# Altium schematic symbol library FT2232HL-REEL.SchLib: 1 symbol
Pins are listed as number, name and electrical type; pins without a type are passive.

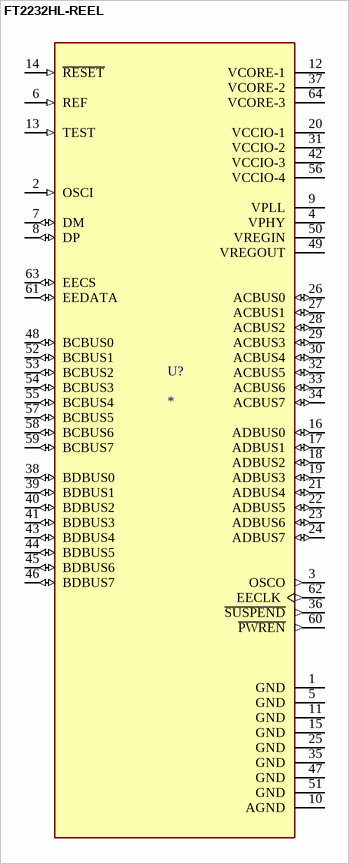
[diagram p0: symbol FT2232HL-REEL]

## FT2232HL-REEL
designator U?
USB Bridge, USB to UART,FIFO USB 2.0 UART Interface 64-LQFP (10x10); MP: FT2232HL-REEL; MF: FTDI,; Value: *; SnapEDA_Link: https://www.snapeda.com/parts/FT2232HL-REEL/FTDI%252C+Future+Technology+Devices+International+Ltd/view-part/?ref=snap; Package: LQFP-64 FTDI; Check_prices: https://www.snapeda.com/parts/FT2232HL-REEL/FTDI%252C+Future+Technology+Devices+International+Ltd/view-part/?ref=eda; Digi-Key_Part_Number: 768-1024-2-ND; Purchase-URL: https://pricing.snapeda.com/search/part/FT2232HL-REEL/?ref=eda
footprint QFP50P1200X1200X160-64N
pins: 1 GND (power), 2 OSCI (in), 3 OSCO (out), 4 VPHY (power), 5 GND (power), 6 REF (in), 7 DM (io), 8 DP (io), 9 VPLL (power), 10 AGND (power), 11 GND (power), 12 VCORE-1 (power), 13 TEST (in), 14 ~{RESET} (in), 15 GND (power), 16 ADBUS0 (io), 17 ADBUS1 (io), 18 ADBUS2 (io), 19 ADBUS3 (io), 20 VCCIO-1 (power), 21 ADBUS4 (io), 22 ADBUS5 (io), 23 ADBUS6 (io), 24 ADBUS7 (io), 25 GND (power), 26 ACBUS0 (io), 27 ACBUS1 (io), 28 ACBUS2 (io), 29 ACBUS3 (io), 30 ACBUS4 (io), 31 VCCIO-2 (power), 32 ACBUS5 (io), 33 ACBUS6 (io), 34 ACBUS7 (io), 35 GND (power), 36 ~{SUSPEND} (out), 37 VCORE-2 (power), 38 BDBUS0 (io), 39 BDBUS1 (io), 40 BDBUS2 (io), 41 BDBUS3 (io), 42 VCCIO-3 (power), 43 BDBUS4 (io), 44 BDBUS5 (io), 45 BDBUS6 (io), 46 BDBUS7 (io), 47 GND (power), 48 BCBUS0 (io), 49 VREGOUT (power), 50 VREGIN (power), 51 GND (power), 52 BCBUS1 (io), 53 BCBUS2 (io), 54 BCBUS3 (io), 55 BCBUS4 (io), 56 VCCIO-4 (power), 57 BCBUS5 (io), 58 BCBUS6 (io), 59 BCBUS7 (io), 60 ~{PWREN} (out), 61 EEDATA (io), 62 EECLK (out), 63 EECS (io), 64 VCORE-3 (power)